# Altium footprint library SM_DIODE_SMA.PcbLib: 1 footprints
Each footprint in its own frame and in the unit in brackets; x right, y up, seen from the top. Pads: shape width x height; smd on the part's side, far side on the other; paste and mask are expansions set on the pad; w line width, h text height; cw(c..) or ccw(c..) is an arc to the next point about the centre after c.
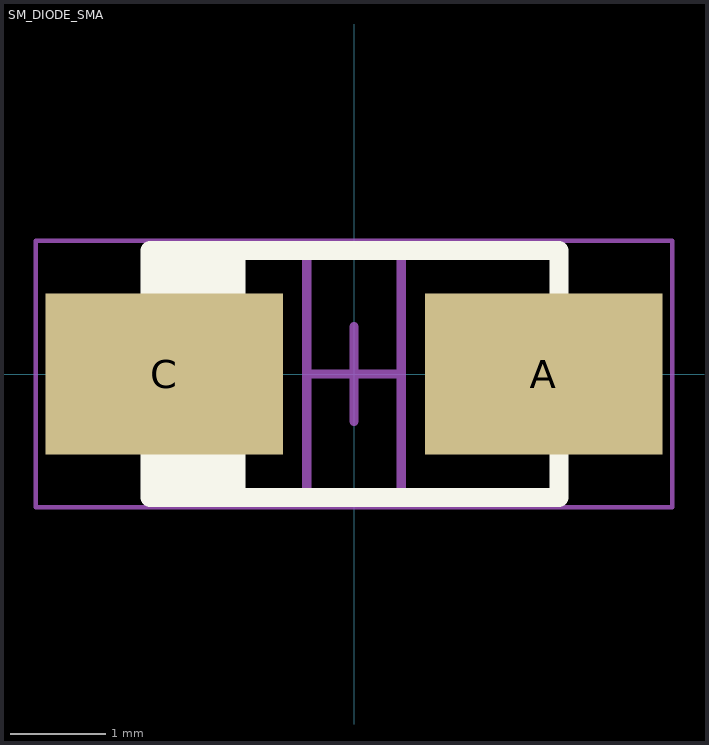
[diagram p0: the footprint, top view; thin cyan lines are the x and y axes]

## SM_DIODE_SMA [mm] "SMA, 2-Leads, Body 4.3x2.605mm, Height 2.3mm"
height 2.3
pads (2):
  rect 2.5x1.7 smd: A(2,0) C(-2,0)
Top Overlay:
  rectangle: -2.224,-1.27 -1.143,1.335
  lines w0.2: -2.15,-1.302 2.159,-1.302 2.159,1.302 -2.15,1.302 ; -2.15,-1.302 -2.15,-1.25 ; -2.15,-1.27 -2.15,1.302
Mechanical 13:
  lines w0.1: -0.5,-1.302 -0.5,1.302 ; 0.5,-1.302 0.5,1.302 ; -2.15,-1.302 2.15,-1.302 2.15,1.302 -2.15,1.302 -2.15,-1.302
Mechanical 15:
  lines w0.05: -3.35,-1.402 3.35,-1.402 3.35,1.402 -3.35,1.402 -3.35,-1.402
  lines w0.1: -0.5,0 0.5,0 ; 0,-0.5 0,0.5
3D body: height 2.3, standoff 0.4, extent 0.5,-1.302 2.15,1.302
3D body: height 2.3, standoff 0.4, extent -2.15,-1.302 -0.5,1.302
3D body: height 2.3, standoff 0.05, extent -0.5,-1.302 0.5,1.302